# Altium schematic symbol library Connectors.SchLib: 9 symbols
Pins are listed as number, name and electrical type; pins without a type are passive.

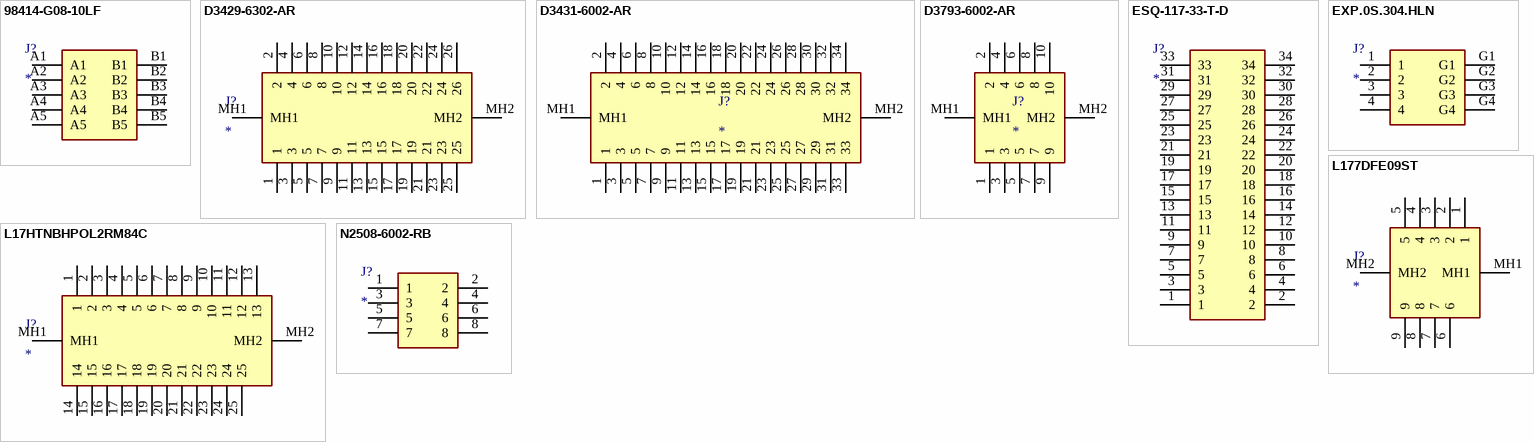
[diagram p0: symbols 98414-G08-10LF to N2508-6002-RB]

## 98414-G08-10LF
designator J?
Connector; Manufacturer_Name: Amphenol; Manufacturer_Part_Number: 98414-G08-10LF; Datasheet Link: https://cdn.amphenol-cs.com/media/wysiwyg/files/drawing/98414.pdf; Height: 6.2mm; Mouser Part Number: 649-98414-G08-10LF; Mouser Price/Stock: https://www.mouser.co.uk/ProductDetail/Amphenol-FCI/98414-G08-10LF?qs=dwWE9K4rTrPm8sS0qAKvPg%3D%3D
footprint 98414G0810LF
pins: A1, A2, A3, A4, A5, B1, B2, B3, B4, B5

## D3429-6302-AR
designator J?
Connector; Manufacturer_Name: 3M; Manufacturer_Part_Number: D3429-6302-AR; Datasheet Link: http://multimedia.3m.com/mws/media/485761O/3mtm-four-wall-header-ts2245.pdf; Height: 13.7mm; Mouser Part Number: 517-D3429-6302-AR; Mouser Price/Stock: https://www.mouser.co.uk/ProductDetail/3M-Electronic-Solutions-Division/D3429-6302-AR?qs=IDj0%2FmHVFfaTU4HTZsyChw%3D%3D
footprint D34296302AR
pins: 1, 2, 3, 4, 5, 6, 7, 8, 9, 10, 11, 12, 13, 14, 15, 16, 17, 18, 19, 20, 21, 22, 23, 24, 25, 26, MH1, MH2

## D3431-6002-AR
designator J?
Connector
footprint D3431-6002-AR-90°
footprint D3431-6002-AR
pins: 1, 2, 3, 4, 5, 6, 7, 8, 9, 10, 11, 12, 13, 14, 15, 16, 17, 18, 19, 20, 21, 22, 23, 24, 25, 26, 27, 28, 29, 30, 31, 32, 33, 34, MH1, MH2

## D3793-6002-AR
designator J?
Connector
footprint D3793-6002-AR (Connector)
pins: 1, 2, 3, 4, 5, 6, 7, 8, 9, 10, MH1, MH2

## ESQ-117-33-T-D
designator J?
Connector; Manufacturer_Name: SAMTEC; Manufacturer_Part_Number: ESQ-117-44-T-D; Datasheet Link: http://suddendocs.samtec.com/prints/esq-1xx-xx-x-x-xxx-xx-x-xx-mkt.pdf; Mouser Part Number: 200-ESQ11744TD; Mouser Price/Stock: https://www.mouser.com/Search/Refine.aspx?Keyword=200-ESQ11744TD
footprint ESQ-117-Y-X-D
pins: 1, 2, 3, 4, 5, 6, 7, 8, 9, 10, 11, 12, 13, 14, 15, 16, 17, 18, 19, 20, 21, 22, 23, 24, 25, 26, 27, 28, 29, 30, 31, 32, 33, 34

## EXP.0S.304.HLN
designator J?
Connector; Manufacturer_Name: LEMO; Manufacturer_Part_Number: EXP.0S.304.HLN; Datasheet Link: https://www.lemo.com/catalog/ROW/UK_English/unipole_multipole.pdf; Height: 12mm; Mouser Part Number: 736-EXP0S304HLN; Mouser Price/Stock: https://www.mouser.co.uk/ProductDetail/LEMO/EXP0S304HLN?qs=g4eXmMl0IezC49McAy%252Bbog%3D%3D
footprint EXP0S304HLN
pins: 1, 2, 3, 4, G1, G2, G3, G4

## L17HTNBHPOL2RM84C
designator J?
Connector; Manufacturer_Name: Amphenol Communications Solutions; Manufacturer_Part_Number: L17HTNBHPOL2RM84C; Datasheet Link: https://cdn.amphenol-cs.com/media/wysiwyg/files/drawing/l17htnxhpol2rm8xc.pdf; Height: 12.5mm; Mouser Part Number: 523-17HTNBHPOL2RM84C; Mouser Price/Stock: https://www.mouser.co.uk/ProductDetail/Amphenol-Commercial-Products/L17HTNBHPOL2RM84C?qs=ToP8pWlZ0bO6Ujv8%2FJibmw%3D%3D
footprint L17HTNBHPOL2RM84C
pins: 1, 2, 3, 4, 5, 6, 7, 8, 9, 10, 11, 12, 13, 14, 15, 16, 17, 18, 19, 20, 21, 22, 23, 24, 25, MH1, MH2

## L177DFE09ST
designator J?
Connector; Manufacturer_Name: Amphenol; Manufacturer_Part_Number: L177DFE09ST; Datasheet Link: https://cdn.amphenol-cs.com/media/wysiwyg/files/drawing/l177dfxxxst.pdf; Height: 12.2mm
footprint L177DFE09ST
pins: 1, 2, 3, 4, 5, 6, 7, 8, 9, MH1, MH2

## N2508-6002-RB
designator J?
Connector; Manufacturer_Name: 3M; Manufacturer_Part_Number: N2508-6002-RB; Datasheet Link: https://multimedia.3m.com/mws/media/330367O/3m-four-wall-header-2500-series-ts-0770.pdf; Height: 10.04mm; Mouser Part Number: 517-N2508-6002-RB; Mouser Price/Stock: https://www.mouser.com/Search/Refine.aspx?Keyword=517-N2508-6002-RB
footprint SHDR8W64P254_2X4_1748X859X1004P
pins: 1, 2, 3, 4, 5, 6, 7, 8